# EAGLE library part FPC-FFC-CONNECTOR-08-1MM (library obd_special)
FPC FFC CONNECTOR 8 PIN 1MM direct connection
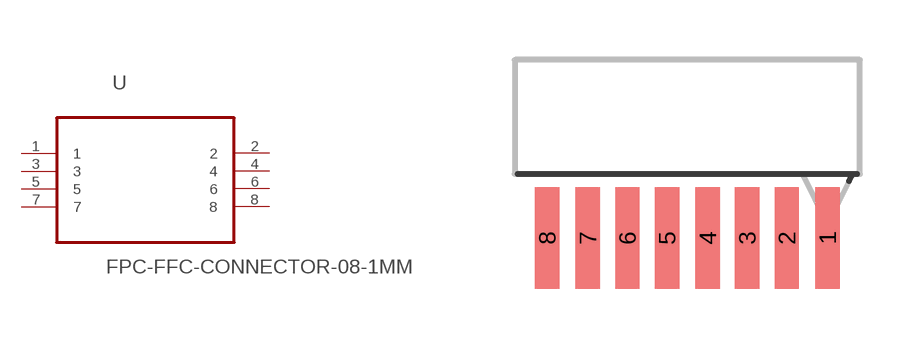
[diagram p0: symbol with the pads of FPC-FFC-CONNECTOR-08-1MM; footprint FPC-FFC-CONNECTOR-08-1MM]

Designator prefix U

## FPC-FFC-CONNECTOR-08-1MM (MPN: 52207-0885; OC_FARNELL: -; OC_NEWARK: 07P8553; PACKAGE: SOCKET FPC, SMT, 1MM, 8 WAY; SUPPLIER: Molex)  [FPC-FFC-CONNECTOR-08-1MM]
1  1  pas
2  2  pas
3  3  pas
4  4  pas
5  5  pas
6  6  pas
7  7  pas
8  8  pas

## Footprint FPC-FFC-CONNECTOR-08-1MM (pad centres in mm)
smd 0.61 x 2.54: 1 3.505,-1.295; 2 2.489,-1.295; 3 1.499,-1.295; 4 0.508,-1.295; 5 -0.508,-1.295; 6 -1.499,-1.295; 7 -2.489,-1.295; 8 -3.505,-1.295